# EAGLE library part LED2001PHR (library CustomParts)
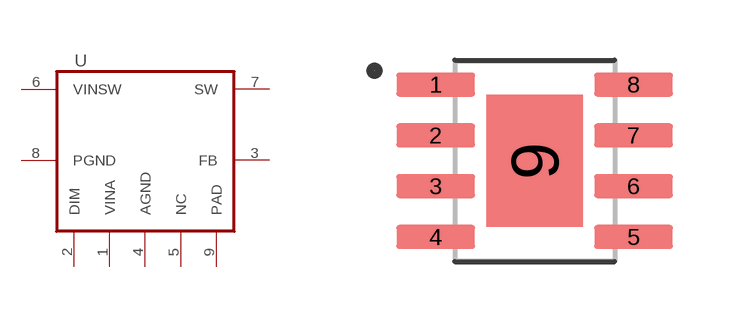
[diagram p4: symbol with the pads of SOIC127P600X170-9N; footprint SOIC127P600X170-9N]

Designator prefix -

## LED2001PHR  [SOIC127P600X170-9N]
1  VINA  in
2  DIM  in
3  FB  in
4  AGND  in
5  NC  in
6  VINSW  in
7  SW  out
8  PGND  in
9  PAD  in

## Footprint SOIC127P600X170-9N (pad centres in mm)
smd 1.97 x 0.6: 1 -2.475,1.905; 2 -2.475,0.635; 3 -2.475,-0.635; 4 -2.475,-1.905; 5 2.475,-1.905; 6 2.475,-0.635; 7 2.475,0.635; 8 2.475,1.905
smd 2.41 x 3.3: 9 0,0